# EAGLE library part 505110-2291 (library 505110-2291)
MOLEX - 505110-2291 - CONNECTOR, FFC/FPC, RCPT, 22POS, 1ROW Source: Datasheet <https://datasheet.datasheetarchive.com/originals/distributors/Datasheets_SAMA/b28bd963ea1e683f48254479215f537a.pdf>
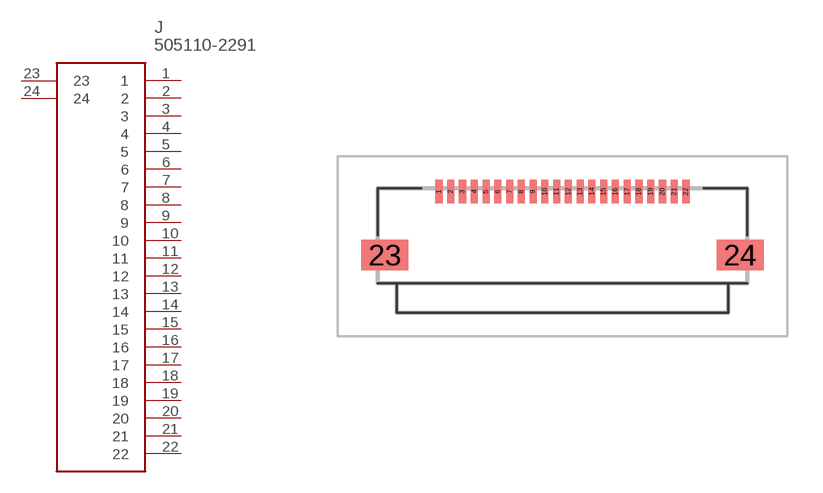
[diagram p0: symbol with the pads of 5051102291; footprint 5051102291]

Designator prefix J

## 505110-2291 (Description: MOLEX - 505110-2291 - CONNECTOR, FFC/FPC, RCPT, 22POS, 1ROW; Height: 3.95mm; Manufacturer_Name: Molex; Manufacturer_Part_Number: 505110-2291; Mouser_Part_Number: 538-505110-2291; Mouser_Price-Stock: https://www.mouser.co.uk/ProductDetail/Molex/505110-2291?qs=fSIr1QPo%2F%2FR7YZ33K34k0A%3D%3D)  [5051102291]
1  1
2  2
3  3
4  4
5  5
6  6
7  7
8  8
9  9
10  10
11  11
12  12
13  13
14  14
15  15
16  16
17  17
18  18
19  19
20  20
21  21
22  22
23  23
24  24

## Footprint 5051102291 (pad centres in mm)
505110-2291-1
smd 0.3 x 1: 1 -5.25,2.325; 2 -4.75,2.325; 3 -4.25,2.325; 4 -3.75,2.325; 5 -3.25,2.325; 6 -2.75,2.325; 7 -2.25,2.325; 8 -1.75,2.325; 9 -1.25,2.325; 10 -0.75,2.325; 11 -0.25,2.325; 12 0.25,2.325; 13 0.75,2.325; 14 1.25,2.325; 15 1.75,2.325; 16 2.25,2.325; 17 2.75,2.325; 18 3.25,2.325; 19 3.75,2.325; 20 4.25,2.325; 21 4.75,2.325; 22 5.25,2.325
smd 2 x 1.3: 23 -7.55,-0.375; 24 7.55,-0.375